# Altium schematic symbol library USB_COM_V1.0.SCHLIB: 14 symbols
Pins are listed as number, name and electrical type; pins without a type are passive.

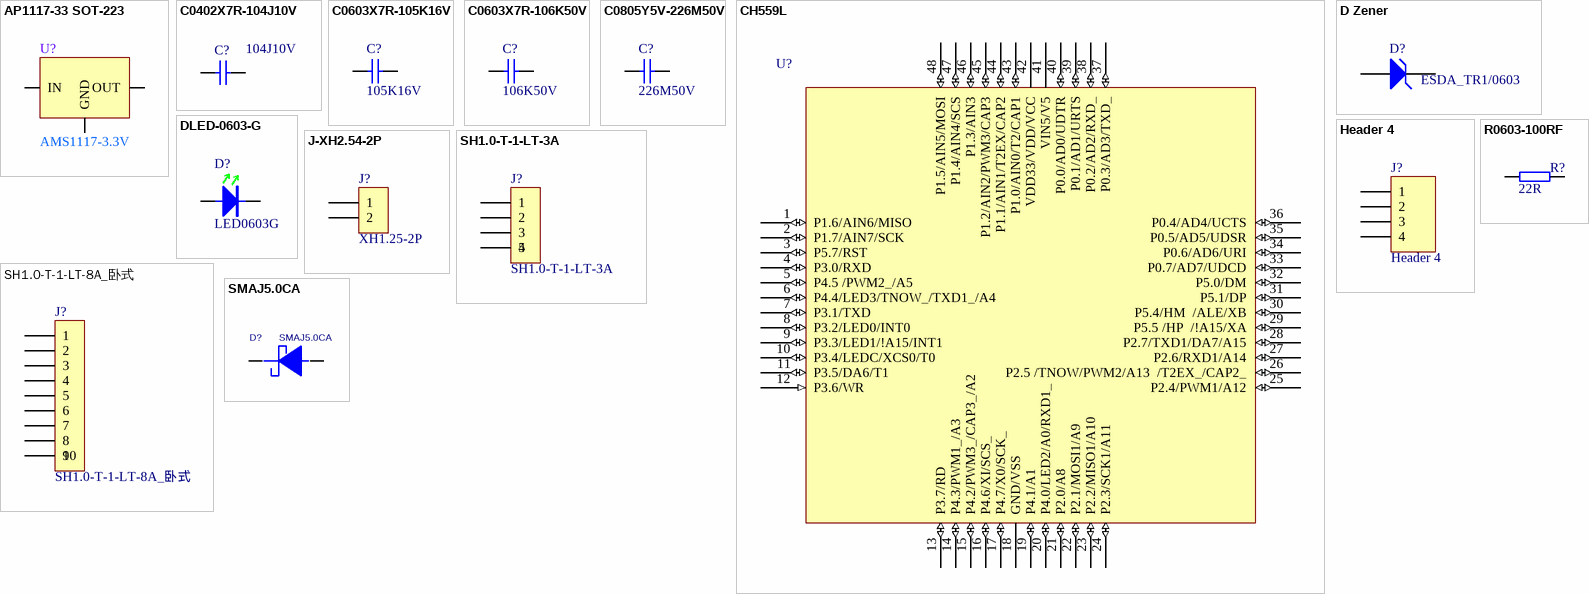
[diagram p0: symbols AP1117-33 SOT-223 to SMAJ5.0CA]

## AP1117-33 SOT-223
designator U?, comment AMS1117-3.3V
芯片 电源类; 单价: 0.15
footprint SOT-223 (稳压IC)
pins: 1 GND, 2 OUT, 3 IN
2 alternate drawings of the same symbol

## C0402X7R-104J10V
designator C?, comment 104J10V
贴片电容-陶瓷; 规格型号: 100nF±5%_10V_X7R_C0402; 生产商: 风华 三星; 供应商: *; 备注: *
footprint C0402
pins: 1, 2

## C0603X7R-105K16V
designator C?, comment 105K16V
贴片电容-陶瓷; 规格型号: 1uF±10%_16V_X7R_C0603; 生产商: 风华 三星; 供应商: *; 备注: *
footprint C0603
pins: 1, 2

## C0603X7R-106K50V
designator C?, comment 106K50V
贴片电容-陶瓷; 规格型号: 10uF±10%_50V_X7R_C0603; 生产商: 风华 三星; 供应商: *; 备注: *
footprint C0603
pins: 1, 2

## C0805Y5V-226M50V
designator C?, comment 226M50V
贴片电容-陶瓷; 规格型号: 22uF±20%_50V_Y5V_C0805; 生产商: 风华 三星; 供应商: *; 备注: *
footprint C0805
pins: 1, 2

## CH559L
designator U?  (value not drawn)
单片机
footprint LQFP48 (贴片IC)
pins: 1 P1.6/AIN6/MISO (io), 2 P1.7/AIN7/SCK (io), 3 P5.7/RST (io), 4 P3.0/RXD (io), 5 P4.5 /PWM2_/A5 (io), 6 P4.4/LED3/TNOW_/TXD1_/A4 (io), 7 P3.1/TXD (io), 8 P3.2/LED0/INT0 (io), 9 P3.3/LED1/!A15/INT1 (io), 10 P3.4/LEDC/XCS0/T0 (io), 11 P3.5/DA6/T1 (io), 12 P3.6/WR (in), 13 P3.7/RD (io), 14 P4.3/PWM1_/A3 (io), 15 P4.2/PWM3_/CAP3_/A2 (io), 16 P4.6/XI/SCS_ (io), 17 P4.7/X0/SCK_ (io), 18 GND/VSS, 19 P4.1/A1 (io), 20 P4.0/LED2/A0/RXD1_ (io), 21 P2.0/A8 (io), 22 P2.1/MOSI1/A9 (io), 23 P2.2/MISO1/A10 (io), 24 P2.3/SCK1/A11 (io), 25 P2.4/PWM1/A12 (io), 26 P2.5 /TNOW/PWM2/A13  /T2EX_/CAP2_ (io), 27 P2.6/RXD1/A14 (io), 28 P2.7/TXD1/DA7/A15 (io), 29 P5.5 /HP  /!A15/XA (io), 30 P5.4/HM  /ALE/XB (io), 31 P5.1/DP (io), 32 P5.0/DM (io), 33 P0.7/AD7/UDCD (io), 34 P0.6/AD6/URI (io), 35 P0.5/AD5/UDSR (io), 36 P0.4/AD4/UCTS (io), 37 P0.3/AD3/TXD_ (io), 38 P0.2/AD2/RXD_ (io), 39 P0.1/AD1/URTS (io), 40 P0.0/AD0/UDTR (io), 41 VIN5/V5, 42 VDD33/VDD/VCC, 43 P1.0/AIN0/T2/CAP1 (io), 44 P1.1/AIN1/T2EX/CAP2 (io), 45 P1.2/AIN2/PWM3/CAP3 (io), 46 P1.3/AIN3 (io), 47 P1.4/AIN4/SCS (io), 48 P1.5/AIN5/MOSI (io)

## D Zener
designator D?, comment ESDA_TR1/0603
Zener Diode; Published: *; LatestRevisionDate: *; LatestRevisionNote: *; PackageReference: *; Publisher: *
footprint HS_0603D
pins: 1 A, 2 K
2 alternate drawings of the same symbol

## DLED-0603-G
designator D?, comment LED0603G
贴片二极管-LED; 规格型号: 0603-GREEN; 货品编码: 无样品无编码; 生产商: *; 供应商: *; 备注: *
footprint D-LED0603G
pins: 1, 2

## Header 4
designator J?
Header, 4-Pin; LatestRevisionDate: 17-Jul-2002; LatestRevisionNote: Re-released for DXP Platform.; Publisher: Altium Limited
footprint HDR1X4 (Connector; Header; 4 Position)
footprint USB-A1
footprint USB-AB
pins: 1, 2, 3, 4

## J-XH2.54-2P
designator J?, comment XH1.25-2P
接插件-2.54; 规格型号: XH2.54-2P; 货品编码: 371007; 供应商: *; 备注: *
footprint S1.25-2P
pins: 1, 2

## R0603-100RF
designator R?, comment 22R
贴片电阻-通用; 生产商: 厚声 国巨; 规格型号: 100R±1%_1/10W_±200ppm_R0603; 备注: *; 供应商: *
footprint R0603
pins: 1, 2

## SH1.0-T-1-LT-3A
designator J?
接插件-SH1.0-T-1-LT-3A; 规格型号: 1.0m立式贴片插座3P/SH1.0-T-1-LT-3A; 供应商: *; 备注: *
footprint J-SH1.0-T-1-LT-3A
pins: 1, 2, 3, 4, 5

## SH1.0-T-1-LT-8A_卧式
designator J?
SH1.0-T-1-LT-6A_卧式
footprint J-SH1.0-T-1-LT-8A_卧式
pins: 1, 2, 3, 4, 5, 6, 7, 8, 9, 10

## SMAJ5.0CA
designator D?
PCB DECAL: DO-214; Value: SMAJ5.0CA
footprint DO-214
pins: 1 +, 2 -